# EAGLE library part M95080 (library IC)
SPI EEPROM
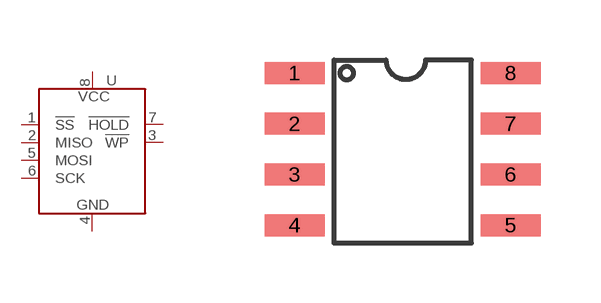
[diagram p5: symbol with the pads of SOIC-3.9MM-8; footprint SOIC-3.9MM-8]

Designator prefix U

## M95080  [SOIC-3.9MM-8]
1  !SS
2  MISO
3  !WP
4  GND
5  MOSI
6  SCK
7  !HOLD
8  VCC

## Footprint SOIC-3.9MM-8 (pad centres in mm)
smd 1.5 x 0.55: 1 -2.699,2.064; 2 -2.699,0.794; 3 -2.699,-0.476; 4 -2.699,-1.746; 5 2.701,-1.746; 6 2.701,-0.476; 7 2.701,0.794; 8 2.701,2.064